# Altium schematic symbol library SCH - DRIVER - LED - TI TCA6507_RUE_12.SchLib: 1 symbol
Pins are listed as number, name and electrical type; pins without a type are passive.

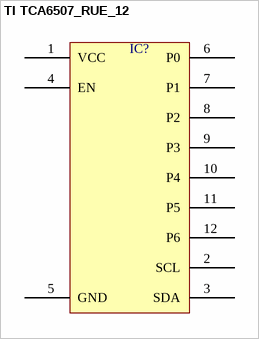
[diagram p0: symbol TI TCA6507_RUE_12]

## TI TCA6507_RUE_12
designator IC?  (value not drawn)
pins: 1 VCC, 2 SCL, 3 SDA, 4 EN, 5 GND, 6 P0, 7 P1, 8 P2, 9 P3, 10 P4, 11 P5, 12 P6